# EAGLE library part TXS0104 (library Gowin)
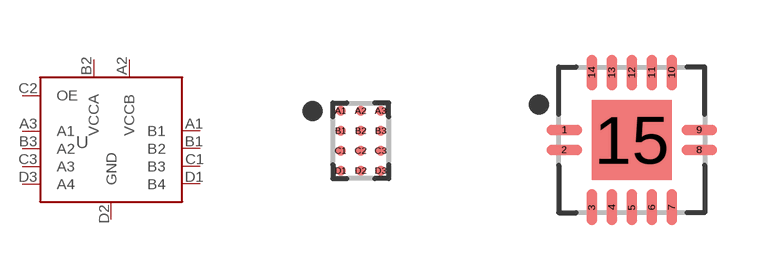
[diagram p6: symbol with the pads of BGA12C50P3X4_186X136X62N; footprints BGA12C50P3X4_186X136X62N, QFN50P350X350X100-15T200N]

Designator prefix -

## TXS0104EYZTR  [BGA12C50P3X4_186X136X62N]
A1  B1
A2  VCCB
A3  A1
B1  B2
B2  VCCA
B3  A2
C1  B3
C2  OE
C3  A3
D1  B4
D2  GND
D3  A4

## TXS0104ERGYR  [QFN50P350X350X100-15T200N]
1  VCCA
2  A1
3  A2
4  A3
5  A4
7  GND
8  OE
10  B4
11  B3
12  B2
13  B1
14  VCCB
15  GND

## Footprint BGA12C50P3X4_186X136X62N (pad centres in mm)
12-BGA, collapsing, 0.50 mm pitch, 1.86 X 1.36 X 0.63 mm body 12-pin collapsing BGA package with 0.50 mm col pitch and 0.50 mm row pitch with body size 1.86 X 1.36 X 0.63 mm
smd 0.25 x 0.25: A1 -0.5,0.75; A2 0,0.75; A3 0.5,0.75; B1 -0.5,0.25; B2 0,0.25; B3 0.5,0.25; C1 -0.5,-0.25; C2 0,-0.25; C3 0.5,-0.25; D1 -0.5,-0.75; D2 0,-0.75; D3 0.5,-0.75

## Footprint QFN50P350X350X100-15T200N (pad centres in mm)
14-QFN, 0.50 mm pitch, 3.50 X 3.50 X 1.00 mm body, 2.00 X 2.00 mm thermal pad 14-pin QFN package with 0.50 mm pitch with body size 3.50 X 3.50 X 1.00 mm and thermal pad size 2.00 X 2.00 mm
smd 0.896 x 0.264: 1 -1.687,0.25; 2 -1.687,-0.25; 8 1.687,-0.25; 9 1.687,0.25
smd 0.264 x 0.896: 3 -1,-1.687; 4 -0.5,-1.687; 5 0,-1.687; 6 0.5,-1.687; 7 1,-1.687; 10 1,1.687; 11 0.5,1.687; 12 0,1.687; 13 -0.5,1.687; 14 -1,1.687
smd 2 x 2: 15 0,0